# Altium footprint library 4.60-XT30-XT60-AS150车模航模电源接口.PcbLib: 13 footprints
Each footprint in its own frame and in the unit in brackets; x right, y up, seen from the top. Pads: shape width x height; smd on the part's side, far side on the other; paste and mask are expansions set on the pad; w line width, h text height; cw(c..) or ccw(c..) is an arc to the next point about the centre after c.
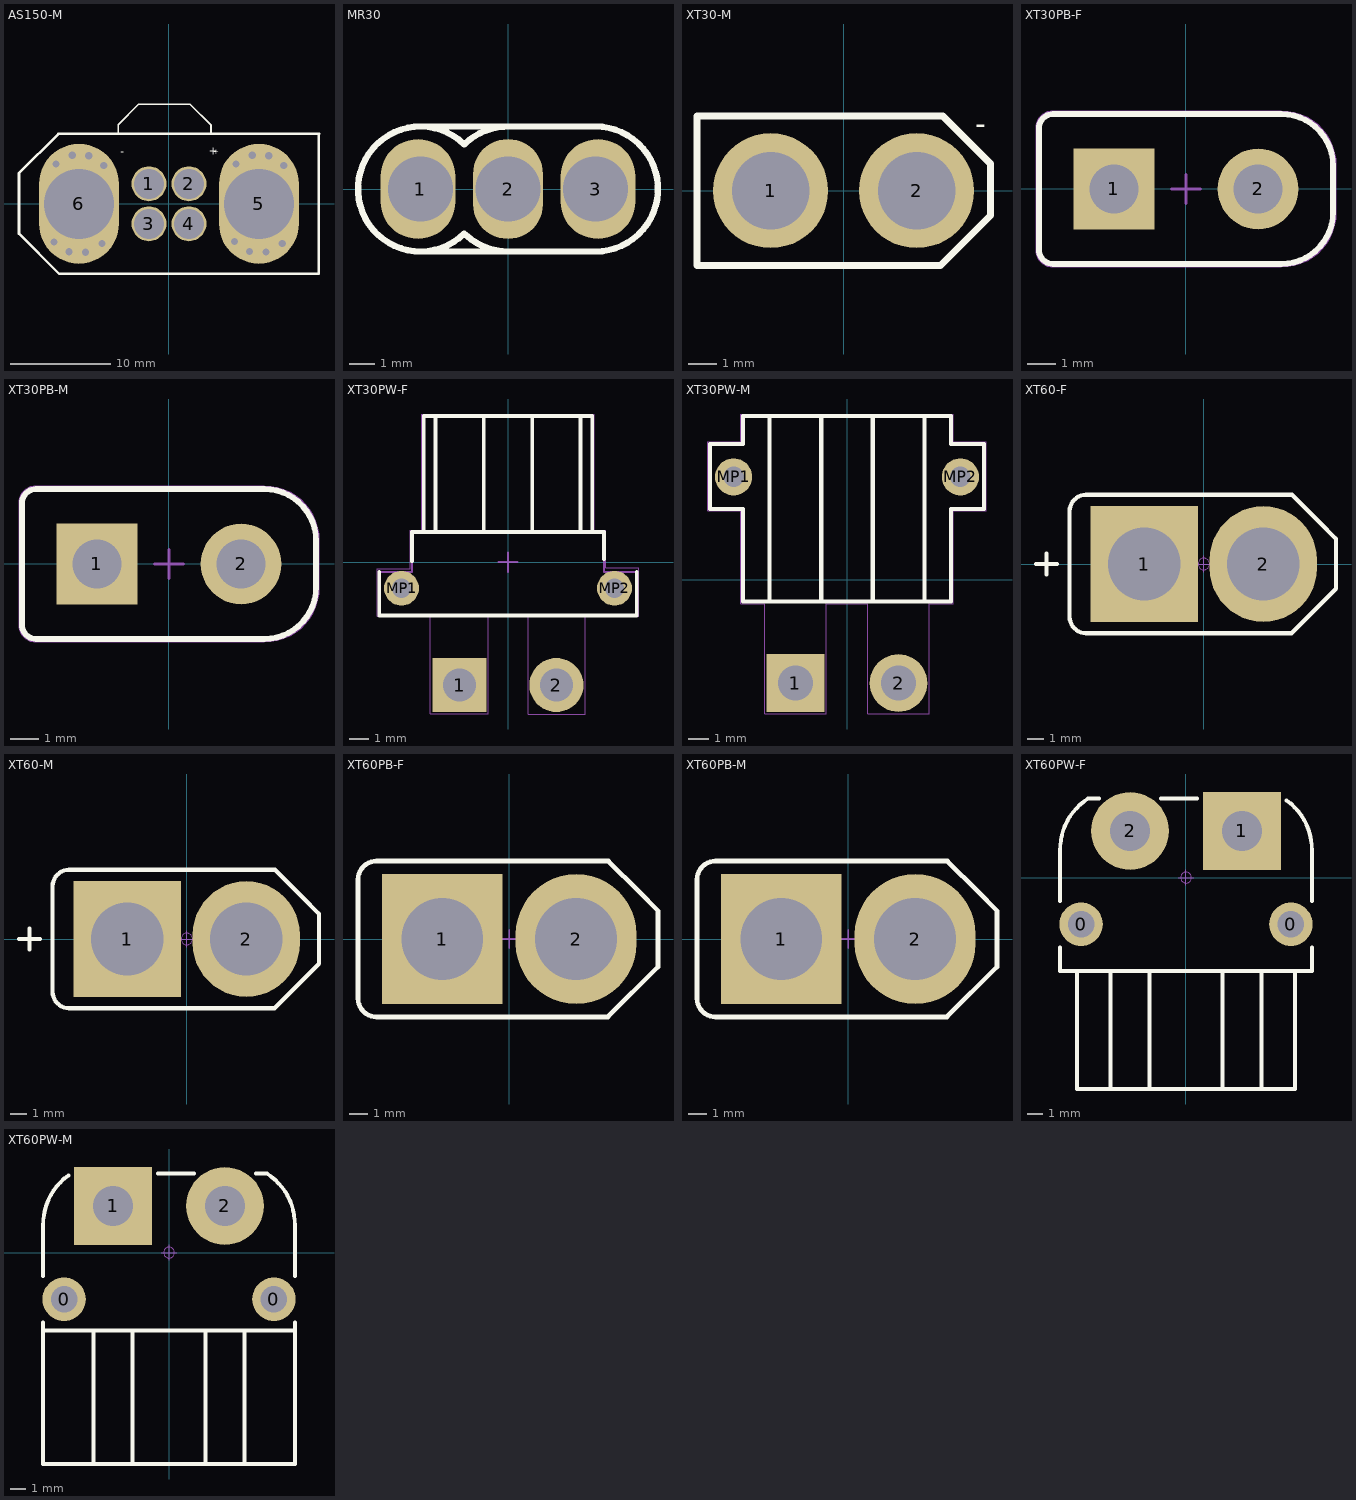
[diagram p0: the footprints below, top view; thin cyan lines are the x and y axes]

## AS150-M [mm] "封装库来自淘宝卖家ID：黄晶宝石"
height 24
pads (6):
  round 3.5 hole 3: 1(-2,2) 2(2,2) 3(-2,-2) 4(2,-2)
  oval 8x12 hole 7: 5(9,0) 6(-9,0)
via -11.294,3.988 diameter 1.27 hole 0.711
via -9.669,4.851 diameter 1.27 hole 0.711
via -8.018,4.801 diameter 1.27 hole 0.711
via -6.519,3.81 diameter 1.27 hole 0.711
via -6.706,-3.988 diameter 1.27 hole 0.711
via -8.331,-4.851 diameter 1.27 hole 0.711
via -9.982,-4.801 diameter 1.27 hole 0.711
via -11.481,-3.81 diameter 1.27 hole 0.711
via 11.337,-3.962 diameter 1.27 hole 0.711
via 9.711,-4.826 diameter 1.27 hole 0.711
via 8.06,-4.775 diameter 1.27 hole 0.711
via 6.562,-3.785 diameter 1.27 hole 0.711
via 11.481,3.81 diameter 1.27 hole 0.711
via 9.982,4.801 diameter 1.27 hole 0.711
via 8.331,4.851 diameter 1.27 hole 0.711
via 6.706,3.988 diameter 1.27 hole 0.711
Top Overlay:
  lines w0.178: -5.08,6.96 -5.08,7.899 ; -5.08,7.925 -3.048,9.957 2.108,9.957 4.216,7.849 4.216,7.29 ; 4.216,7.112 4.216,7.671
  lines w0.254: 15,7.01 15,-7 -10.983,-7 -15,-2.983 -15,3.059 -11.059,7 15.011,7
  text "-" at -4.47,5.436 h0.76
  text "+" at 4.877,5.613 h0.76
  text "+" at 4.445,4.978 h0.51
Bottom Overlay:
  text "-" at -4.978,5.436 h0.76
  text "+" at 4.369,5.613 h0.76

## MR30 [mm] "淘宝ID:黄晶宝石"
pads (3):
  oval 3x4 hole 2.6 copper offset -0.1,0: 1(-3.5,0)
  oval 2.8x4 hole 2.6: 2(0,0)
  oval 3x4 hole 2.6 copper offset 0.1,0: 3(3.5,0)
Top Overlay:
  lines w0.254: -3.5,-2.5 3.5,-2.5 ccw(c3.5,0) 3.5,2.5 -3.5,2.5 ; -1.754,1.781 cw(c0,0) -0.172,2.494 ; -1.75,1.785 ccw(c-3.5,0) -1.749,-1.784 ; -1.706,-1.828 ccw(c0,0) 0.055,-2.499
Mechanical 15:
  circle w0.05: c0,0 r0.35
  lines w0.05: -0.5,0 0.5,0 ; 0,-0.5 0,0.5
3D body "MR30.STEP": height 10.51, standoff -2.89, extent -5.95,-2.6 6.35,2.7
3D body "LED 0603玻璃罩.": height 0, standoff 0, extent 0,0 0,0

## XT30-M [mm]
height 24
pads (2):
  round 4 hole 2.7: 1(-2.54,0) 2(2.54,0)
Top Overlay:
  lines w0.254: 3.454,2.6 -5.1,2.6 -5.1,-2.6 3.369,-2.6 5.105,-0.864 5.105,0.94 3.511,2.535
  text "-" at 4.572,1.956 h0.76
Bottom Overlay:
  text "+" at -4.88,-2.775 h0.51
  text "-" at 5.08,1.956 h0.76
3D body "XT30u-m.STEP": height 10.66, standoff -3.04, extent -5.1,-2.8 5.1,2.8

## XT30PB-F [mm] "TH, 2-Leads, Body 10.2x5.2mm, Pitch 5.00mm"
height 11.4
pads (2):
  rect 2.8x2.8 hole 1.7: 1(-2.5,0)
  round 2.8 hole 1.7: 2(2.5,0)
Top Overlay:
  lines w0.2: -5.1,-2.1 ccw(c-4.6,-2.1) -4.6,-2.6 3.3,-2.6 ccw(c3.3,-0.8) 5.1,-0.8 5.1,0.8 ccw(c3.3,0.8) 3.3,2.6 -4.6,2.6 ccw(c-4.6,2.1) -5.1,2.1 -5.1,-2.1
Mechanical 13:
  lines w0.1: -5.1,-2.1 ccw(c-4.6,-2.1) -4.6,-2.6 3.3,-2.6 ccw(c3.3,-0.8) 5.1,-0.8 5.1,0.8 ccw(c3.3,0.8) 3.3,2.6 -4.6,2.6 ccw(c-4.6,2.1) -5.1,2.1 -5.1,-2.1
Mechanical 15:
  lines w0.05: -5.2,-2.1 ccw(c-4.6,-2.1) -4.6,-2.7 3.3,-2.7 ccw(c3.3,-0.8) 5.2,-0.8 5.2,0.8 ccw(c3.3,0.8) 3.3,2.7 -4.6,2.7 ccw(c-4.6,2.1) -5.2,2.1 -5.2,-2.1
  lines w0.1: -0.5,0 0.5,0 ; 0,-0.5 0,0.5
3D body "xt30pb-f-2.stp": height 9.4, standoff -2, extent -5.1,-2.6 5.1,2.6

## XT30PB-M [mm] "TH, 2-Leads, Body 10.2x5.2mm, Pitch 5.00mm"
height 12.7
pads (2):
  rect 2.8x2.8 hole 1.7: 1(-2.5,0)
  round 2.8 hole 1.7: 2(2.5,0)
Top Overlay:
  lines w0.2: -5.1,-2.1 ccw(c-4.6,-2.1) -4.6,-2.6 3.3,-2.6 ccw(c3.3,-0.8) 5.1,-0.8 5.1,0.8 ccw(c3.3,0.8) 3.3,2.6 -4.6,2.6 ccw(c-4.6,2.1) -5.1,2.1 -5.1,-2.1
Mechanical 13:
  lines w0.1: -5.1,-2.1 ccw(c-4.6,-2.1) -4.6,-2.6 3.3,-2.6 ccw(c3.3,-0.8) 5.1,-0.8 5.1,0.8 ccw(c3.3,0.8) 3.3,2.6 -4.6,2.6 ccw(c-4.6,2.1) -5.1,2.1 -5.1,-2.1
Mechanical 15:
  lines w0.05: -5.2,-2.1 ccw(c-4.6,-2.1) -4.6,-2.7 3.3,-2.7 ccw(c3.3,-0.8) 5.2,-0.8 5.2,0.8 ccw(c3.3,0.8) 3.3,2.7 -4.6,2.7 ccw(c-4.6,2.1) -5.2,2.1 -5.2,-2.1
  lines w0.1: -0.5,0 0.5,0 ; 0,-0.5 0,0.5
3D body "XT30UPB-F.step": height 9.45, standoff -1.95, extent -5.1,-2.6 5.1,2.6

## XT30PW-F [mm] "TH, 4-Leads, Body 14.9x13.3mm"
height 7
pads (4):
  rect 2.8x2.8 hole 1.7: 1(-2.5,-6.35)
  round 2.8 hole 1.7: 2(2.5,-6.35)
  round 1.8 hole 1: MP1(-5.5,-1.35) MP2(5.5,-1.35)
Top Overlay:
  lines w0.2: -6.65,-0.5 -6.65,-2.75 6.65,-2.75 6.65,-0.5 ; -4.95,0.05 -4.95,1.55 -4.35,1.55 ; -4.35,7.545 -4.35,1.55 ; -4.35,7.55 4.35,7.55 ; -3.75,1.55 -3.75,7.55 ; -1.25,1.55 -1.25,7.55 ; 1.25,1.55 1.25,7.55 ; 3.75,1.55 3.75,7.55 ; 4.35,7.545 4.35,1.55 ; 4.95,0.15 4.95,1.55 4.35,1.55 ; -4.35,1.55 4.35,1.55
Mechanical 13:
  lines w0.1: -4.35,7.545 -4.35,1.55 -4.95,1.55 -4.95,-0.5 -6.65,-0.5 -6.65,-2.75 6.65,-2.75 6.65,-0.5 4.95,-0.5 4.95,1.55 4.35,1.55 4.35,7.545 ; -4.35,7.55 4.35,7.55
Mechanical 15:
  lines w0.05: -4.011,-2.8 -4.011,-7.839 -1.011,-7.839 -1.011,-2.802 ; 1.055,-2.8 1.055,-7.845 3.995,-7.845 3.995,-2.81 ; -6.75,-2.8 -6.75,-0.35 -5.05,-0.35 -5.05,1.65 -4.45,1.65 -4.45,7.65 4.45,7.65 4.45,1.65 5.05,1.65 5.05,-0.3 6.75,-0.3 6.75,-2.8 -6.75,-2.8
  lines w0.1: -0.5,0 0.5,0 ; 0,-0.5 0,0.5
3D body "XT30PW-F.step": height 5, standoff -2, extent -6.65,-7.35 6.65,7.55

## XT30PW-M [mm] "TH, 4-Leads, Body 13.95x13.3mm"
height 7
pads (4):
  rect 2.8x2.8 hole 1.7: 1(-2.5,-5)
  round 2.8 hole 1.7: 2(2.5,-5)
  round 1.8 hole 1: MP1(-5.5,5) MP2(5.5,5)
Top Overlay:
  lines w0.2: -3.75,-1.05 -3.75,7.95 ; -1.25,-1.05 -1.25,7.95 ; 1.25,-1.05 1.25,7.95 ; 3.75,-1.05 3.75,7.95 ; -5.05,7.95 5.05,7.95 ; -5.05,7.95 -5.05,6.6 -6.65,6.6 -6.65,3.45 -5.05,3.45 -5.05,-1.05 5.05,-1.05 5.05,3.45 6.65,3.45 6.65,6.6 5.05,6.6 5.05,7.95 ; -5.05,7.95 -5.05,7.95 ; 5.05,7.95 5.05,7.95
Mechanical 13:
  lines w0.1: -3.75,-1.05 -3.75,7.95 ; -1.25,-1.05 -1.25,7.95 ; 1.25,-1.05 1.25,7.95 ; 3.75,-1.05 3.75,7.95 ; -5.05,7.95 -5.05,7.95 ; -5.05,7.95 -5.05,6.6 -6.65,6.6 -6.65,3.45 -5.05,3.45 -5.05,-1.05 5.05,-1.05 5.05,3.45 6.65,3.45 6.65,6.6 5.05,6.6 5.05,7.95 ; -5.05,7.95 5.05,7.95 ; 5.05,7.95 5.05,7.95
Mechanical 15:
  lines w0.05: -6.75,3.35 -6.75,6.7 -5.15,6.7 -5.15,8.05 5.15,8.05 5.15,6.7 6.75,6.7 6.75,3.35 5.15,3.35 5.15,-1.15 4,-1.15 4,-6.5 1,-6.5 1,-1.15 -1,-1.15 -1,-6.5 -4,-6.5 -4,-1.15 -5.15,-1.15 -5.15,3.35 -6.75,3.35
3D body "XT30PW-M.step": height 5.05, standoff -1.95, extent -6.65,-6 6.65,7.95

## XT60-F [mm] "长：16mm，宽：8.2mm，高：16mm     淘宝ID:黄晶宝石"
pads (2):
  rect 6.5x7 hole 4.4: 1(-3.6,0)
  oval 6.5x7 hole 4.4: 2(3.6,0)
Top Overlay:
  lines w0.254: -10.16,0 -8.89,0 ; -9.525,-0.635 -9.525,0.635 ; -8.128,-3.191 ccw(c-7.128,-3.191) -7.128,-4.191 5.309,-4.191 8,-1.5 8,1.525 6.985,2.54 5.334,4.191 -7.128,4.191 ccw(c-7.128,3.191) -8.128,3.191 -8.128,-3.191
Mechanical 15:
  circle w0.05: c0,0 r0.35
  lines w0.05: -0.5,0 0.5,0 ; 0,-0.5 0,0.5
3D body "XT60_F.STEP": height 17.3, standoff -4, extent -8.1,-4.3 7.9,3.8

## XT60-M [mm] "长：16mm，宽：8.2mm，高：16mm"
pads (2):
  rect 6.5x7 hole 4.4: 1(-3.6,0)
  oval 6.5x7 hole 4.4: 2(3.6,0)
Top Overlay:
  lines w0.254: -10.16,0 -8.89,0 ; -9.525,-0.635 -9.525,0.635 ; -8.128,-3.191 ccw(c-7.128,-3.191) -7.128,-4.191 5.309,-4.191 8,-1.5 8,1.525 6.985,2.54 5.334,4.191 -7.128,4.191 ccw(c-7.128,3.191) -8.128,3.191 -8.128,-3.191
Mechanical 15:
  circle w0.05: c0,0 r0.35
  lines w0.05: -0.5,0 0.5,0 ; 0,-0.5 0,0.5
3D body "XT60_M.STEP": height 16.5, standoff -4.7, extent -7.75,-4.1 8.15,4.05

## XT60PB-F [mm] "TH, 2-Leads, Body 15.3x7.9mm, Pitch 7.2mm"
height 13.5
pads (2):
  rect 6.5x7 hole 4.4: 1(-3.6,0)
  oval 6.5x7 hole 4.4: 2(3.6,0)
Top Overlay:
  lines w0.254: -8.128,-3.191 ccw(c-7.128,-3.191) -7.128,-4.191 5.309,-4.191 8,-1.5 8,1.525 6.985,2.54 5.334,4.191 -7.128,4.191 ccw(c-7.128,3.191) -8.128,3.191 -8.128,-3.191
Mechanical 15:
  lines w0.1: -0.5,0 0.5,0 ; 0,-0.5 0,0.5
3D body "tx60-li-s.stp": height 16.05, standoff -2.25, extent -8.1,-4.2 7.9,4

## XT60PB-M [mm] "TH, 2-Leads, Body 15.3x7.9mm, Pitch 7.2mm"
height 13.5
pads (2):
  rect 6.5x7 hole 4.4: 1(-3.6,0)
  oval 6.5x7 hole 4.4: 2(3.6,0)
Top Overlay:
  lines w0.254: -8.128,-3.191 ccw(c-7.128,-3.191) -7.128,-4.191 5.309,-4.191 8,-1.5 8,1.525 6.985,2.54 5.334,4.191 -7.128,4.191 ccw(c-7.128,3.191) -8.128,3.191 -8.128,-3.191
Mechanical 15:
  lines w0.1: -0.5,0 0.5,0 ; 0,-0.5 0,0.5
3D body "tx60-li-s.stp": height 16.05, standoff -2.25, extent -8,-4.1 8,4.1

## XT60PW-F [mm] "长：18.8mm， 宽：16mm，高：8.6mm"
pads (4):
  round 2.8 hole 1.7: 0(-6.75,-3) 0(6.75,-3)
  rect 5x5 hole 2.6: 1(3.6,3)
  round 5 hole 2.6: 2(-3.6,3)
Top Overlay:
  lines w0.254: -8.1,-4.5 -8.1,-6 8.1,-6 8.1,-4.5 ; -8.1,-1.5 -8.1,1.738 cw(c-4.2,1.8) -6.294,5.091 ; -7,-6 -7,-13.6 7,-13.6 7,-6 ; -6.294,5.1 -5.6,5.1 ; -4.85,-13.6 -4.85,-6 ; -2.35,-13.6 -2.35,-6 ; -1.6,5.1 0.7,5.1 ; 2.35,-13.6 2.35,-6 ; 4.85,-13.6 4.85,-6 ; 6.476,4.967 cw(c4.2,1.8) 8.1,1.738 ; 8.1,-1.5 8.1,1.792 ; 0,-6 ccw(c0,-6) 0,-6
Mechanical 15:
  circle w0.05: c0,0 r0.35
  lines w0.05: -0.5,0 0.5,0 ; 0,-0.5 0,0.5
3D body "tx60pw-f20.STEP": height 8.65, standoff -2.35, extent -8,-13.6 8,5.02

## XT60PW-M [mm] "长：18.8mm， 宽：16mm，高：8.6mm     淘宝ID:黄晶宝石"
pads (4):
  round 2.8 hole 1.7: 0(-6.75,-3) 0(6.75,-3)
  rect 5x5 hole 2.6: 1(-3.6,3)
  round 5 hole 2.6: 2(3.6,3)
Top Overlay:
  lines w0.254: -8.1,-4.5 -8.1,-5 ; -8.1,-1.5 -8.1,1.792 ; -8.1,1.738 cw(c-4.2,1.8) -6.476,4.967 ; -4.85,-13.6 -4.85,-5 ; -2.35,-13.6 -2.35,-5 ; -0.7,5.1 1.6,5.1 ; 2.35,-13.6 2.35,-5 ; 4.85,-13.6 4.85,-5 ; 5.6,5.1 6.294,5.1 ; 6.294,5.091 cw(c4.2,1.8) 8.1,1.738 8.1,-1.5 ; 8.1,-4.5 8.1,-5 ; -8.1,-5 -8.1,-13.6 8.1,-13.6 8.1,-5 ; -8.1,-5 8.1,-5
Mechanical 15:
  circle w0.05: c0,0 r0.35
  lines w0.05: -0.5,0 0.5,0 ; 0,-0.5 0,0.5
3D body "tx60pw-m20.STEP": height 8.65, standoff -2.35, extent -8,-13.6 8,5.02